# Altium integrated library 5-2176094-2.IntLib: 1 symbol
Pins are listed as number, name and electrical type; pins without a type are passive.

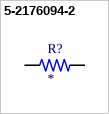
[diagram p0: symbol 5-2176094-2]

## 5-2176094-2
designator R?
RP 2A 0.25W 412K 0.1% 25PPM 1K RL; MP: 5-2176094-2; Package: None; Price: None; Value: *; Availability: Unavailable
footprint RESC2012X65N
pins: 1, 2